# Altium schematic symbol library SIM7670.SchLib: 1 symbol
Pins are listed as number, name and electrical type; pins without a type are passive.

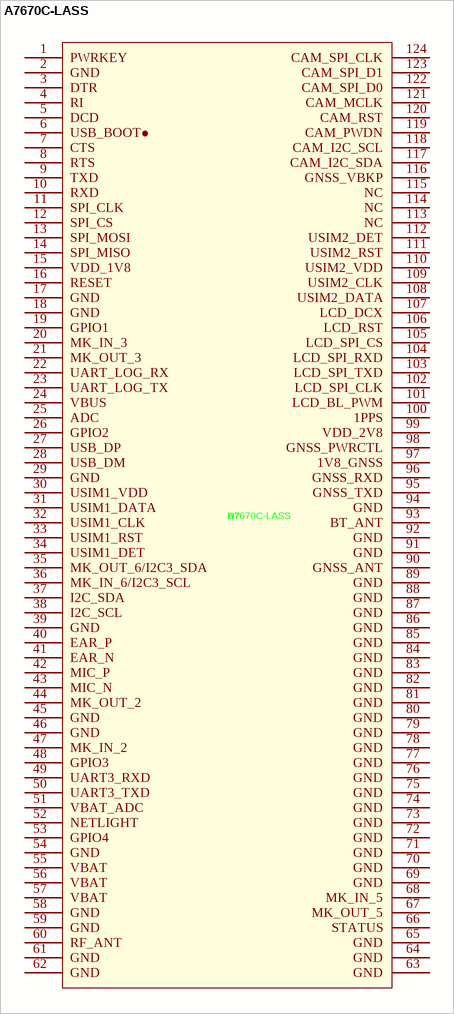
[diagram p0: symbol A7670C-LASS]

## A7670C-LASS
designator U?
Manufacturer: SIMCOM(芯讯通无线科技); Add into BOM: yes; Symbol: A7670C-LASS; Device: A7670C-LASS; LCSC Part Name: A7670C-LASS; Supplier Part: C2846099; Manufacturer Part: A7670C-LASS; Supplier Footprint: SMD,24x24mm; JLCPCB Part Class: Extended Part; Datasheet: https://atta.szlcsc.com/upload/public/pdf/source/20220111/D09C5E5B3A3F14B11B5478D9AD2681B5.pdf; Supplier: LCSC; Convert to PCB: yes
footprint LGA-124_L24.0-W24.0-P1.0-A7670C-LASS
pins: 1 PWRKEY, 2 GND, 3 DTR, 4 RI, 5 DCD, 6 USB_BOOT●, 7 CTS, 8 RTS, 9 TXD, 10 RXD, 11 SPI_CLK, 12 SPI_CS, 13 SPI_MOSI, 14 SPI_MISO, 15 VDD_1V8, 16 RESET, 17 GND, 18 GND, 19 GPIO1, 20 MK_IN_3, 21 MK_OUT_3, 22 UART_LOG_RX, 23 UART_LOG_TX, 24 VBUS, 25 ADC, 26 GPIO2, 27 USB_DP, 28 USB_DM, 29 GND, 30 USIM1_VDD, 31 USIM1_DATA, 32 USIM1_CLK, 33 USIM1_RST, 34 USIM1_DET, 35 MK_OUT_6/I2C3_SDA, 36 MK_IN_6/I2C3_SCL, 37 I2C_SDA, 38 I2C_SCL, 39 GND, 40 EAR_P, 41 EAR_N, 42 MIC_P, 43 MIC_N, 44 MK_OUT_2, 45 GND, 46 GND, 47 MK_IN_2, 48 GPIO3, 49 UART3_RXD, 50 UART3_TXD, 51 VBAT_ADC, 52 NETLIGHT, 53 GPIO4, 54 GND, 55 VBAT, 56 VBAT, 57 VBAT, 58 GND, 59 GND, 60 RF_ANT, 61 GND, 62 GND, 63 GND, 64 GND, 65 GND, 66 STATUS, 67 MK_OUT_5, 68 MK_IN_5, 69 GND, 70 GND, 71 GND, 72 GND, 73 GND, 74 GND, 75 GND, 76 GND, 77 GND, 78 GND, 79 GND, 80 GND, 81 GND, 82 GND, 83 GND, 84 GND, 85 GND, 86 GND, 87 GND, 88 GND, 89 GND, 90 GNSS_ANT, 91 GND, 92 GND, 93 BT_ANT, 94 GND, 95 GNSS_TXD, 96 GNSS_RXD, 97 1V8_GNSS, 98 GNSS_PWRCTL, 99 VDD_2V8, 100 1PPS, 101 LCD_BL_PWM, 102 LCD_SPI_CLK, 103 LCD_SPI_TXD, 104 LCD_SPI_RXD, 105 LCD_SPI_CS, 106 LCD_RST, 107 LCD_DCX, 108 USIM2_DATA, 109 USIM2_CLK, 110 USIM2_VDD, 111 USIM2_RST, 112 USIM2_DET, 113 NC, 114 NC, 115 NC, 116 GNSS_VBKP, 117 CAM_I2C_SDA, 118 CAM_I2C_SCL, 119 CAM_PWDN, 120 CAM_RST, 121 CAM_MCLK, 122 CAM_SPI_D0, 123 CAM_SPI_D1, 124 CAM_SPI_CLK